# Altium integrated library NSC Logic Decoder Demux.IntLib: 105 symbols (part 3 of 3)
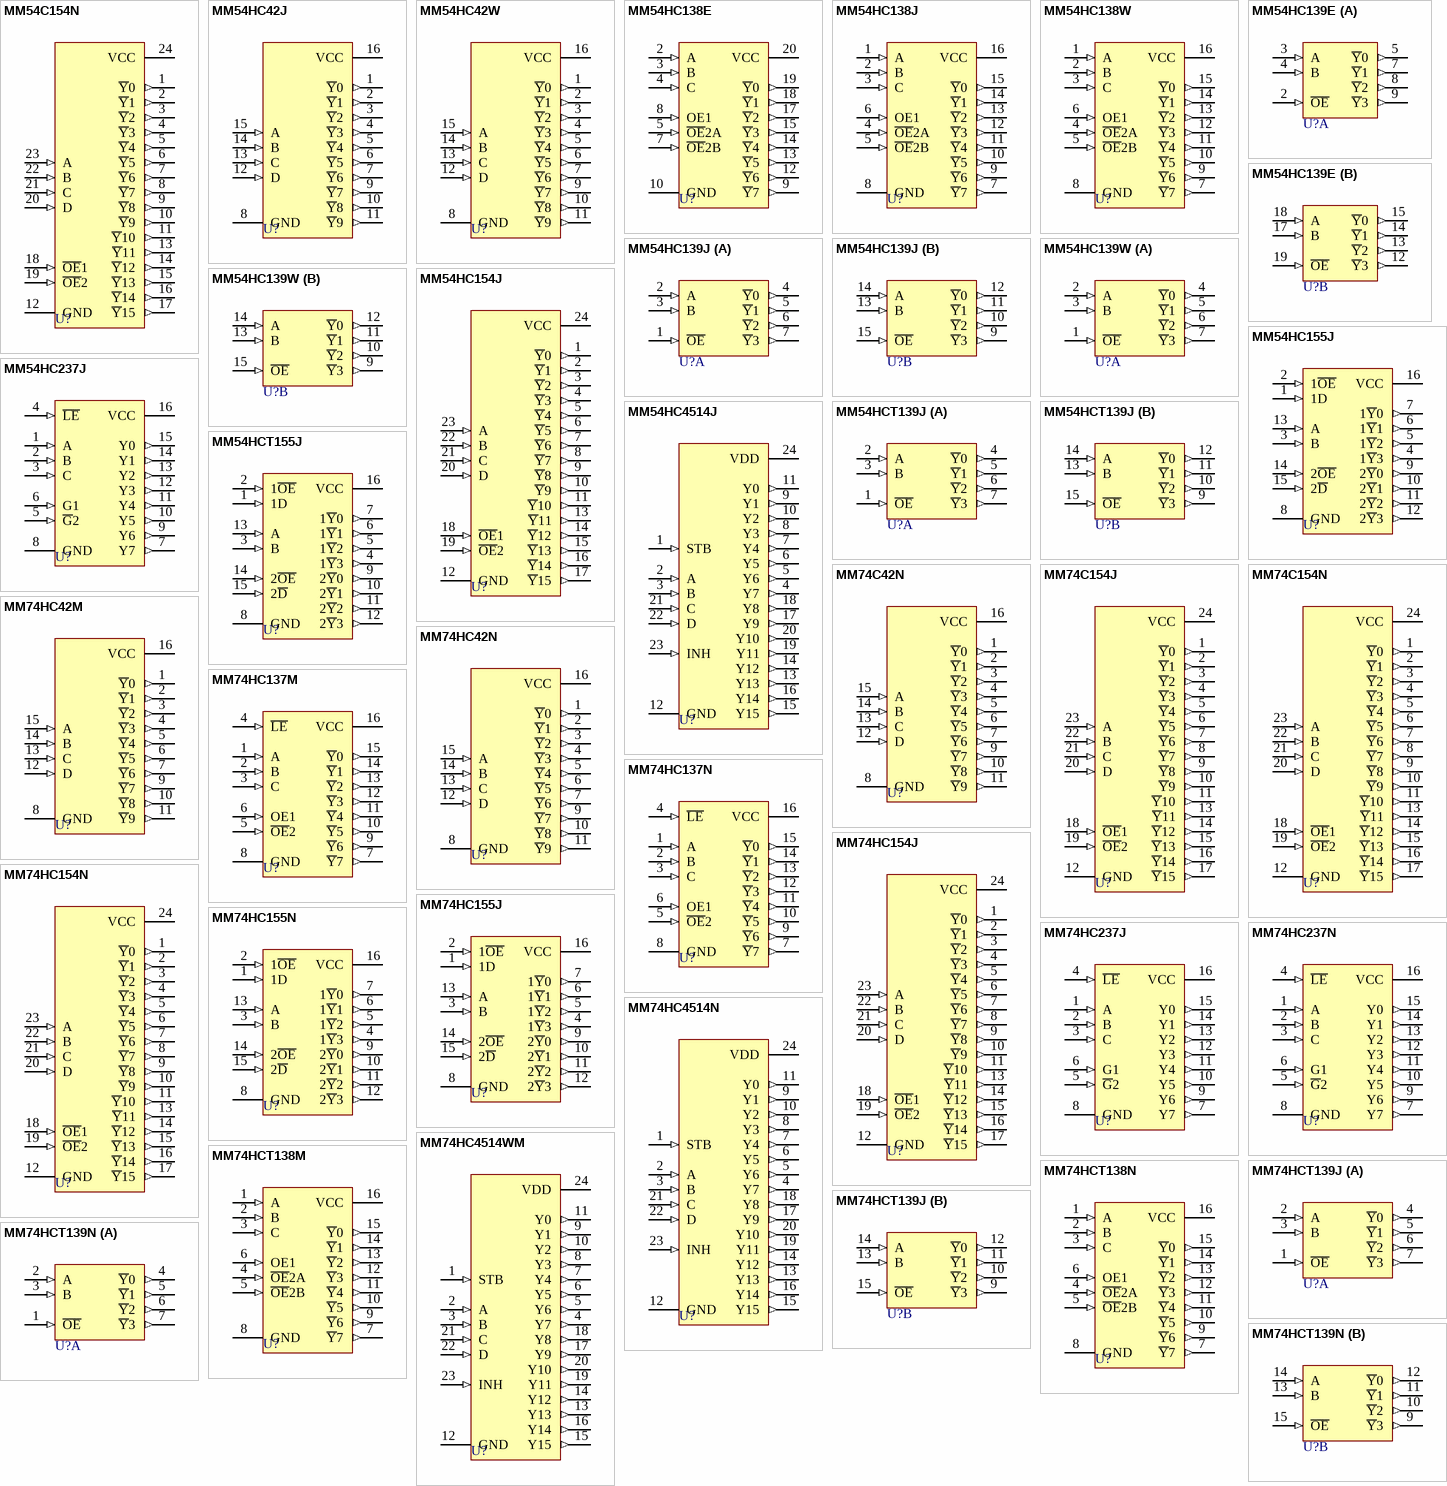
[diagram p5: symbols MM54C154N to MM74HCT139N]

## MM74HC4514WM
designator U?
4-to-16-Line Decoder with Latch; Published: 15-Apr-2002; LatestRevisionDate: 13-Apr-2006; LatestRevisionNote: IPC-7351 Footprint Added.; DatasheetVersion: 1988; PackageVersion: 2000; PackageReference: M24B; Publisher: Altium Limited; PackageDescription: 24-Pin Small Outline Integrated Circuit 1.27 mm Pitch; ComponentLink1Description: Manufacturer Link; ComponentLink1URL: http://www.national.com/; ComponentLink2Description: Datasheet; ComponentLink2URL: http://www.fairchildsemi.com/ds/MM/MM74HC4514.pdf; ComponentLink3Description: URL Link1; ComponentLink3URL: http://www.fairchildsemi.com/pf/MM/MM74HC4514.html
footprint M24B_N (SOIC, 24-Leads, Body 15.4x7.5mm, Pitch 1.27mm, IPC Medium Density)
footprint M24B_L (SOIC, 24-Leads, Body 15.4x7.5mm, Pitch 1.27mm, IPC High Density)
footprint M24B_M (SOIC, 24-Leads, Body 15.4x7.5mm, Pitch 1.27mm, IPC Low Density)
3D model M24B (24-Pin Small Outline Integrated Circuit 1.27 mm Pitch)
signal-integrity model MM74HC4514WM
pins: 1 STB (in), 2 A (in), 3 B (in), 4 Y7 (out), 5 Y6 (out), 6 Y5 (out), 7 Y4 (out), 8 Y3 (out), 9 Y1 (out), 10 Y2 (out), 11 Y0 (out), 12 GND (power), 13 Y13 (out), 14 Y12 (out), 15 Y15 (out), 16 Y14 (out), 17 Y9 (out), 18 Y8 (out), 19 Y11 (out), 20 Y10 (out), 21 C (in), 22 D (in), 23 INH (in), 24 VDD (power)

## MM74HCT138M
designator U?
3-to-8-Line Decoder; Published: 15-Apr-2002; LatestRevisionDate: 13-Apr-2006; LatestRevisionNote: IPC-7351 Footprint Added.; DatasheetVersion: 1988; PackageVersion: 2000; PackageReference: M16A; Publisher: Altium Limited; PackageDescription: 16-Pin Small Outline Integrated Circuit 1.27 mm Pitch; Code_IPC: SOIC127P600-16; ComponentLink1Description: Manufacturer Link; ComponentLink1URL: http://www.national.com/; ComponentLink2Description: Datasheet; ComponentLink2URL: http://www.fairchildsemi.com/ds/MM/MM74HCT138.pdf; ComponentLink3Description: URL Link1; ComponentLink3URL: http://www.fairchildsemi.com/pf/MM/MM74HCT138.html
footprint M16A_N (SOIC, 16-Leads, Body 9.9x3.9mm, Pitch 1.27mm, IPC Medium Density)
footprint M16A_L (SOIC, 16-Leads, Body 9.9x3.9mm, Pitch 1.27mm, IPC High Density)
footprint M16A_M (SOIC, 16-Leads, Body 9.9x3.9mm, Pitch 1.27mm, IPC Low Density)
3D model M16A (16-Pin Small Outline Integrated Circuit 1.27 mm Pitch)
simulation model 74LS138 (SIMCODE)
signal-integrity model MM74HCT138M
pins: 1 A (in), 2 B (in), 3 C (in), 4 ~{OE}2A (in), 5 ~{OE}2B (in), 6 OE1 (in), 7 ~{Y}7 (out), 8 GND (power), 9 ~{Y}6 (out), 10 ~{Y}5 (out), 11 ~{Y}4 (out), 12 ~{Y}3 (out), 13 ~{Y}2 (out), 14 ~{Y}1 (out), 15 ~{Y}0 (out), 16 VCC (power)

## MM74HCT138N
designator U?
3-to-8-Line Decoder; Published: 15-Apr-2002; LatestRevisionDate: 06-Jun-2005; LatestRevisionNote: Stylized 3D Model Added.; DatasheetVersion: 1988; PackageVersion: 2000; PackageReference: N16E; Publisher: Altium Limited; PackageDescription: DIP; 16 Leads; Row Spacing 7.62 mm; Pitch 2.54 mm; ComponentLink1Description: Manufacturer Link; ComponentLink1URL: http://www.national.com/; ComponentLink2Description: Datasheet; ComponentLink2URL: http://www.fairchildsemi.com/ds/MM/MM74HCT138.pdf; ComponentLink3Description: URL Link1; ComponentLink3URL: http://www.fairchildsemi.com/pf/MM/MM74HCT138.html
footprint N16E (DIP; 16 Leads; Row Spacing 7.62 mm; Pitch 2.54 mm)
3D model J16A (DIP; 16 Leads; Row Spacing 7.62 mm; Pitch 2.54 mm)
simulation model 74LS138 (SIMCODE)
signal-integrity model MM74HCT138N
pins: 1 A (in), 2 B (in), 3 C (in), 4 ~{OE}2A (in), 5 ~{OE}2B (in), 6 OE1 (in), 7 ~{Y}7 (out), 8 GND (power), 9 ~{Y}6 (out), 10 ~{Y}5 (out), 11 ~{Y}4 (out), 12 ~{Y}3 (out), 13 ~{Y}2 (out), 14 ~{Y}1 (out), 15 ~{Y}0 (out), 16 VCC (power)

## MM74HCT139J
designator U?
Dual 2-to-4-Line Decoder; Published: 15-Apr-2002; LatestRevisionDate: 06-Jun-2005; LatestRevisionNote: Stylized 3D Model Added.; DatasheetVersion: Jan-1988; PackageVersion: 2000; PackageReference: J16A; Publisher: Altium Limited; PackageDescription: DIP; 16 Leads; Row Spacing 7.62 mm; Pitch 2.54 mm; ComponentLink1Description: Manufacturer Link; ComponentLink1URL: http://www.national.com/
footprint J16A (DIP; 16 Leads; Row Spacing 7.62 mm; Pitch 2.54 mm)
3D model J16A (DIP; 16 Leads; Row Spacing 7.62 mm; Pitch 2.54 mm)
simulation model 74LS139 (SIMCODE)
signal-integrity model MM74HCT139J
pins on every part: 8 GND (power) hidden to GND, 16 VCC (power) hidden to VCC
part A pins: 1 ~{OE} (in), 2 A (in), 3 B (in), 4 ~{Y}0 (out), 5 ~{Y}1 (out), 6 ~{Y}2 (out), 7 ~{Y}3 (out)
part B pins: 9 ~{Y}3 (out), 10 ~{Y}2 (out), 11 ~{Y}1 (out), 12 ~{Y}0 (out), 13 B (in), 14 A (in), 15 ~{OE} (in)

## MM74HCT139N
designator U?
Dual 2-to-4-Line Decoder; Published: 15-Apr-2002; LatestRevisionDate: 06-Jun-2005; LatestRevisionNote: Stylized 3D Model Added.; DatasheetVersion: Jan-1988; PackageVersion: 2000; PackageReference: N16E; Publisher: Altium Limited; PackageDescription: DIP; 16 Leads; Row Spacing 7.62 mm; Pitch 2.54 mm; ComponentLink1Description: Manufacturer Link; ComponentLink1URL: http://www.national.com/
footprint N16E (DIP; 16 Leads; Row Spacing 7.62 mm; Pitch 2.54 mm)
3D model J16A (DIP; 16 Leads; Row Spacing 7.62 mm; Pitch 2.54 mm)
simulation model 74LS139 (SIMCODE)
signal-integrity model MM74HCT139N
pins on every part: 8 GND (power) hidden to GND, 16 VCC (power) hidden to VCC
part A pins: 1 ~{OE} (in), 2 A (in), 3 B (in), 4 ~{Y}0 (out), 5 ~{Y}1 (out), 6 ~{Y}2 (out), 7 ~{Y}3 (out)
part B pins: 9 ~{Y}3 (out), 10 ~{Y}2 (out), 11 ~{Y}1 (out), 12 ~{Y}0 (out), 13 B (in), 14 A (in), 15 ~{OE} (in)

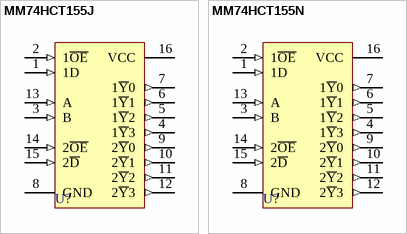
[diagram p3: symbols MM74HCT155J to MM74HCT155N]

## MM74HCT155J
designator U?
Dual 2-to-4-Line Decoder/Demultiplexer; Published: 15-Apr-2002; LatestRevisionDate: 06-Jun-2005; LatestRevisionNote: Stylized 3D Model Added.; DatasheetVersion: Jan-1988; PackageVersion: 2000; PackageReference: J16A; Publisher: Altium Limited; PackageDescription: DIP; 16 Leads; Row Spacing 7.62 mm; Pitch 2.54 mm; ComponentLink1Description: Manufacturer Link; ComponentLink1URL: http://www.national.com/
footprint J16A (DIP; 16 Leads; Row Spacing 7.62 mm; Pitch 2.54 mm)
3D model J16A (DIP; 16 Leads; Row Spacing 7.62 mm; Pitch 2.54 mm)
simulation model 74LS155 (SIMCODE)
signal-integrity model MM74HCT155J
pins: 1 1D (in), 2 1~{OE} (in), 3 B (in), 4 1~{Y}3 (out), 5 1~{Y}2 (out), 6 1~{Y}1 (out), 7 1~{Y}0 (out), 8 GND (power), 9 2~{Y}0 (out), 10 2~{Y}1 (out), 11 2~{Y}2 (out), 12 2~{Y}3 (out), 13 A (in), 14 2~{OE} (in), 15 2~{D} (in), 16 VCC (power)

## MM74HCT155N
designator U?
Dual 2-to-4-Line Decoder/Demultiplexer; Published: 15-Apr-2002; LatestRevisionDate: 06-Jun-2005; LatestRevisionNote: Stylized 3D Model Added.; DatasheetVersion: Jan-1988; PackageVersion: 2000; PackageReference: N16E; Publisher: Altium Limited; PackageDescription: DIP; 16 Leads; Row Spacing 7.62 mm; Pitch 2.54 mm; ComponentLink1Description: Manufacturer Link; ComponentLink1URL: http://www.national.com/
footprint N16E (DIP; 16 Leads; Row Spacing 7.62 mm; Pitch 2.54 mm)
3D model J16A (DIP; 16 Leads; Row Spacing 7.62 mm; Pitch 2.54 mm)
simulation model 74LS155 (SIMCODE)
signal-integrity model MM74HCT155N
pins: 1 1D (in), 2 1~{OE} (in), 3 B (in), 4 1~{Y}3 (out), 5 1~{Y}2 (out), 6 1~{Y}1 (out), 7 1~{Y}0 (out), 8 GND (power), 9 2~{Y}0 (out), 10 2~{Y}1 (out), 11 2~{Y}2 (out), 12 2~{Y}3 (out), 13 A (in), 14 2~{OE} (in), 15 2~{D} (in), 16 VCC (power)